# Altium footprint library PCB_LIB.PcbLib: 12 footprints
Each footprint in its own frame and in the unit in brackets; x right, y up, seen from the top. Pads: shape width x height; smd on the part's side, far side on the other; paste and mask are expansions set on the pad; w line width, h text height; cw(c..) or ccw(c..) is an arc to the next point about the centre after c.
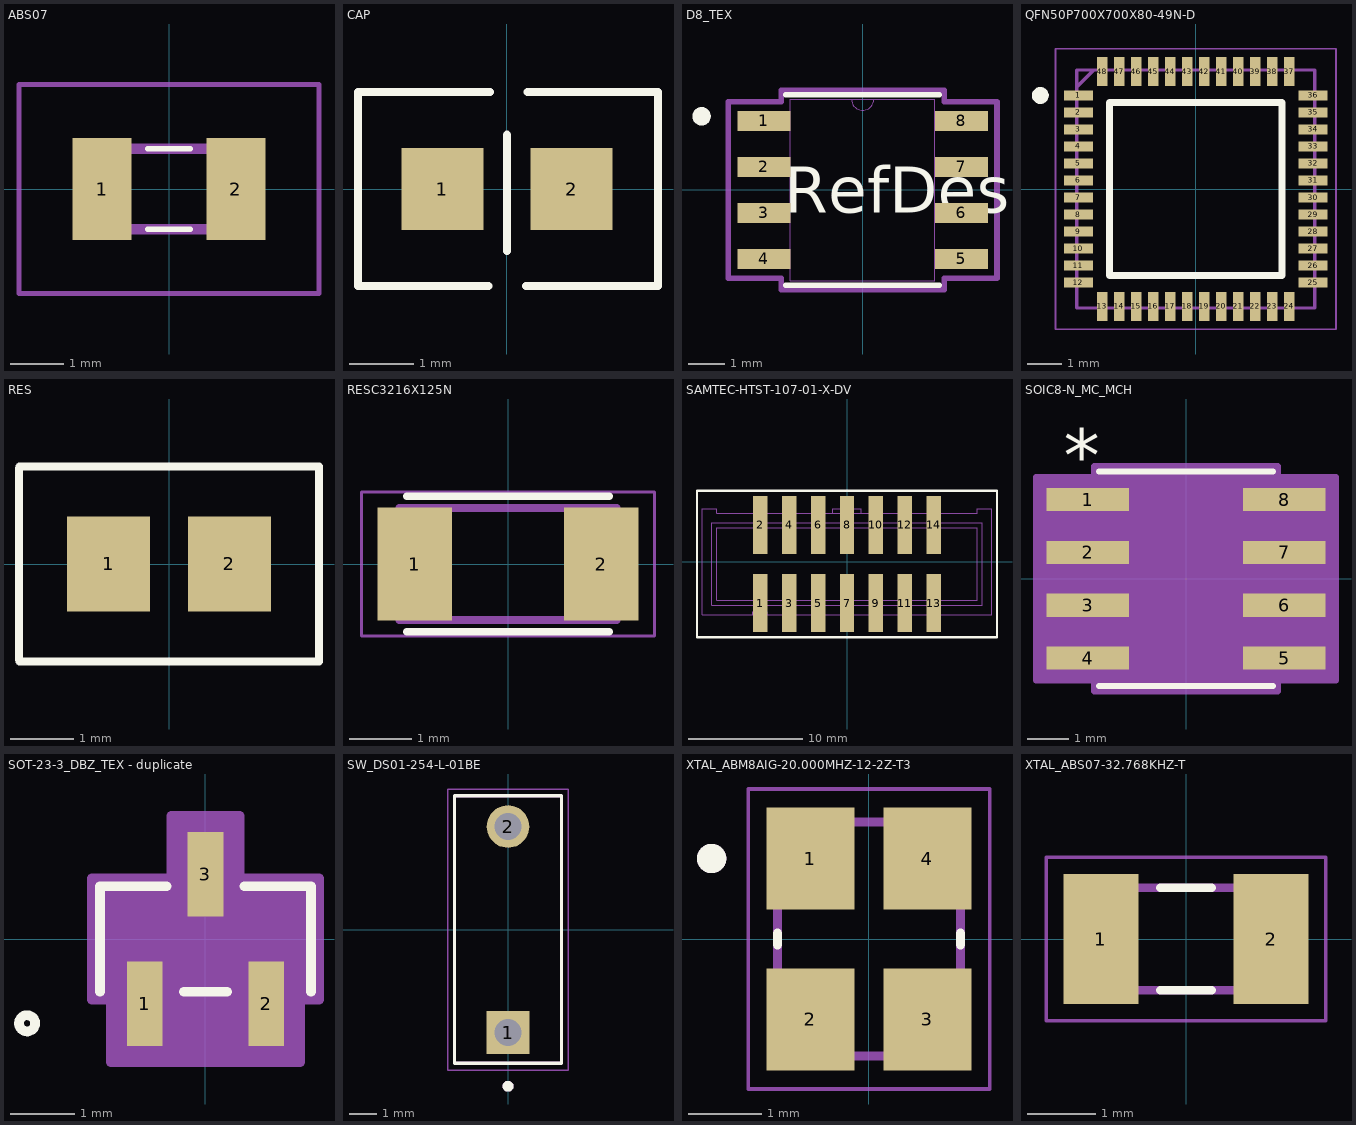
[diagram p0: the footprints below, top view; thin cyan lines are the x and y axes]

## ABS07 [mm]
pads (2):
  rect 1.1x1.9 smd: 1(-1.25,0) 2(1.25,0)
Top Overlay:
  lines w0.1: -0.4,-0.75 0.4,-0.75 ; -0.4,0.75 0.4,0.75
Mechanical 13:
  lines w0.2: -1.6,-0.75 -1.6,0.75 1.6,0.75 1.6,-0.75 -1.6,-0.75
Mechanical 15:
  lines w0.1: -2.8,-1.95 -2.8,1.95 2.8,1.95 2.8,-1.95 -2.8,-1.95
3D body "ABS07-32.768KHZ-T.stp": height 0.9, standoff 0, extent -1.6,-0.75 1.6,0.75

## CAP [mm] "Ceramic Capacitor"
height 0.7
pads (2):
  rect 1.27x1.27 smd mask+0.076: 1(-1,0) 2(1,0)
Top Overlay:
  lines w0.125: -0.289,-1.5 -2.308,-1.5 -2.308,1.5 -0.263,1.5 ; 0.001,-0.959 0.001,0.841 ; 0.295,-1.5 2.34,-1.5 2.34,1.5 0.321,1.5
3D body "0805 SMD Capacitor.STEP": height 0.78, standoff 0, extent -1,-0.625 1,0.625

## D8_TEX [mil]
pads (8):
  rect 57.5x22 smd paste+0 mask+0: 1(-107.25,75) 2(-107.25,25) 3(-107.25,-25) 4(-107.25,-75) 5(107.25,-75) 6(107.25,-25) 7(107.25,25) 8(107.25,75)
Top Overlay:
  circle w10: c-175,80 r5
  lines w6: -83.5,-103.5 83.5,-103.5 ; -83.5,103.5 83.5,103.5
  text "RefDes" at -85,-25 h50
Mechanical 13:
  lines w0: -12,98.5 ccw(c0,98.5) 12,98.5
  lines w1: -122,-85 -78.5,-85 -78.5,-65 -122,-65 -122,-85 ; -122,-35 -78.5,-35 -78.5,-15 -122,-15 -122,-35 ; -122,15 -78.5,15 -78.5,35 -122,35 -122,15 ; -122,65 -78.5,65 -78.5,85 -122,85 -122,65 ; -78.5,-98.5 -78.5,98.5 78.5,98.5 78.5,-98.5 -78.5,-98.5 ; 78.5,-85 122,-85 122,-65 78.5,-65 78.5,-85 ; 78.5,-35 122,-35 122,-15 78.5,-15 78.5,-35 ; 78.5,15 122,15 122,35 78.5,35 78.5,15 ; 78.5,65 122,65 122,85 78.5,85 78.5,65
  text "RefDes2" at -87.5,-25 h50
Mechanical 15:
  lines w6: -146,-96 -88.5,-96 -88.5,-108.5 88.5,-108.5 88.5,-96 146,-96 146,96 88.5,96 88.5,108.5 -88.5,108.5 -88.5,96 -146,96 -146,-96
3D body "D8_TEX.step": height 69.09, standoff 0, extent -122.01,-98.5 122.01,98.5

## QFN50P700X700X80-49N-D [mm]
pads (48):
  rect 0.85x0.3 smd: 1(-3.45,2.75) 2(-3.45,2.25) 3(-3.45,1.75) 4(-3.45,1.25) 5(-3.45,0.75) 6(-3.45,0.25) 7(-3.45,-0.25) 8(-3.45,-0.75) 9(-3.45,-1.25) 10(-3.45,-1.75) 11(-3.45,-2.25) 12(-3.45,-2.75) 25(3.45,-2.75) 26(3.45,-2.25) 27(3.45,-1.75) 28(3.45,-1.25) 29(3.45,-0.75) 30(3.45,-0.25) 31(3.45,0.25) 32(3.45,0.75) 33(3.45,1.25) 34(3.45,1.75) 35(3.45,2.25) 36(3.45,2.75)
  rect 0.3x0.85 smd: 13(-2.75,-3.45) 14(-2.25,-3.45) 15(-1.75,-3.45) 16(-1.25,-3.45) 17(-0.75,-3.45) 18(-0.25,-3.45) 19(0.25,-3.45) 20(0.75,-3.45) 21(1.25,-3.45) 22(1.75,-3.45) 23(2.25,-3.45) 24(2.75,-3.45) 37(2.75,3.45) 38(2.25,3.45) 39(1.75,3.45) 40(1.25,3.45) 41(0.75,3.45) 42(0.25,3.45) 43(-0.25,3.45) 44(-0.75,3.45) 45(-1.25,3.45) 46(-1.75,3.45) 47(-2.25,3.45) 48(-2.75,3.45)
Top Overlay:
  circle w0.25: c-4.572,2.75 r0.125
  lines w0.2: -2.54,-2.54 2.54,-2.54 2.54,2.54 -2.54,2.54 -2.54,-2.54
Mechanical 13:
  lines w0.1: -3.5,3 -3,3.5 ; -3.5,-3.5 3.5,-3.5 3.5,3.5 -3.5,3.5 -3.5,-3.5
Mechanical 15:
  lines w0.05: -4.125,-4.125 4.125,-4.125 4.125,4.125 -4.125,4.125 -4.125,-4.125
3D body "R5F51105ADNE#20.stp": height 0.8, standoff 0, extent -3.55,-3.55 3.55,3.55

## RES [mm] "Resister"
height 0.65
pads (2):
  rect 1.3x1.5 smd mask+0.076: 1(-0.95,0) 2(0.95,0)
Top Overlay:
  lines w0.125: -2.358,-1.5 -2.358,1.5 ; -2.35,-1.53 2.358,-1.53 ; -2.35,1.53 2.358,1.53 2.358,1.515 2.358,-1.5
3D body "RES0805.stp": height 0.5, standoff 0, extent -1,-0.63 1,0.62

## RESC3216X125N [mm]
pads (2):
  rect 1.2x1.82 smd: 1(-1.505,0) 2(1.505,0)
Top Overlay:
  lines w0.127: -1.63,-1.09 1.63,-1.09 ; -1.63,1.09 1.63,1.09
Mechanical 13:
  lines w0.127: -1.75,-0.9 1.75,-0.9 1.75,0.9 -1.75,0.9 -1.75,-0.9
Mechanical 15:
  lines w0.05: -2.36,-1.16 2.36,-1.16 2.36,1.16 -2.36,1.16 -2.36,-1.16
3D body "0ZCJ0050FF2G.STEP": height 0.43, standoff -0.43, extent -1.625,-0.825 1.625,0.825

## SAMTEC-HTST-107-01-X-DV [mm]
pads (14):
  rect 1.27x5.08 smd mask+0: 1(-7.62,-3.62) 2(-7.62,3.238) 3(-5.08,-3.62) 4(-5.08,3.238) 5(-2.54,-3.62) 6(-2.54,3.238) 7(0,-3.62) 8(0,3.238) 9(2.54,-3.62) 10(2.54,3.238) 11(5.08,-3.62) 12(5.08,3.238) 13(7.62,-3.62) 14(7.62,3.238)
Top Overlay:
  lines w0.2: -13.15,-6.611 13.15,-6.611 13.15,6.23 -13.15,6.23 -13.15,-6.611
Top Paste:
  region: -6.985,-6.16 -8.255,-6.16 -8.255,-1.08 -6.985,-1.08
  region: -6.985,0.698 -8.255,0.698 -8.255,5.778 -6.985,5.778
  region: -4.445,-6.16 -5.715,-6.16 -5.715,-1.08 -4.445,-1.08
  region: -4.445,0.698 -5.715,0.698 -5.715,5.778 -4.445,5.778
  region: -1.905,-6.16 -3.175,-6.16 -3.175,-1.08 -1.905,-1.08
  region: -1.905,0.698 -3.175,0.698 -3.175,5.778 -1.905,5.778
  region: 0.635,-6.16 -0.635,-6.16 -0.635,-1.08 0.635,-1.08
  region: 0.635,0.698 -0.635,0.698 -0.635,5.778 0.635,5.778
  region: 3.175,-6.16 1.905,-6.16 1.905,-1.08 3.175,-1.08
  region: 3.175,0.698 1.905,0.698 1.905,5.778 3.175,5.778
  region: 5.715,-6.16 4.445,-6.16 4.445,-1.08 5.715,-1.08
  region: 5.715,0.698 4.445,0.698 4.445,5.778 5.715,5.778
  region: 8.255,-6.16 6.985,-6.16 6.985,-1.08 8.255,-1.08
  region: 8.255,0.698 6.985,0.698 6.985,5.778 8.255,5.778
Top Solder:
  region: -6.934,-6.211 -8.306,-6.211 -8.306,-1.029 -6.934,-1.029
  region: -6.934,0.647 -8.306,0.647 -8.306,5.829 -6.934,5.829
  region: -4.394,-6.211 -5.766,-6.211 -5.766,-1.029 -4.394,-1.029
  region: -4.394,0.647 -5.766,0.647 -5.766,5.829 -4.394,5.829
  region: -1.854,-6.211 -3.226,-6.211 -3.226,-1.029 -1.854,-1.029
  region: -1.854,0.647 -3.226,0.647 -3.226,5.829 -1.854,5.829
  region: 0.686,-6.211 -0.686,-6.211 -0.686,-1.029 0.686,-1.029
  region: 0.686,0.647 -0.686,0.647 -0.686,5.829 0.686,5.829
  region: 3.226,-6.211 1.854,-6.211 1.854,-1.029 3.226,-1.029
  region: 3.226,0.647 1.854,0.647 1.854,5.829 3.226,5.829
  region: 5.766,-6.211 4.394,-6.211 4.394,-1.029 5.766,-1.029
  region: 5.766,0.647 4.394,0.647 4.394,5.829 5.766,5.829
  region: 8.306,0.647 6.934,0.647 6.934,5.829 8.306,5.829
  region: 8.306,-6.211 6.934,-6.211 6.934,-1.029 8.306,-1.029
Mechanical 13:
  drawing of 164 lines, arcs and shapes, not listed
3D body "HTST-107-01-T-DV.stp": height 8.89, standoff -1.27, extent -12.573,-5.842 12.827,5.334

## SOIC8-N_MC_MCH [mil]
pads (8):
  rect 78x22 smd paste+0 mask+0: 1(-93,75) 2(-93,25) 3(-93,-25) 4(-93,-75) 5(93,-75) 6(93,-25) 7(93,25) 8(93,75)
Top Overlay:
  lines w6: -82,-101.5 82,-101.5 ; -82,101.5 82,101.5
  text ".Designator" at -137.5,-25 h50
  text "*" at -115.5,92 h50
Mechanical 13:
  lines w1: -12,96.5 ccw(c0,96.5) 12,96.5 ; -118,-85 -118,-65 -77,-65 -77,-85 -118,-85 ; -118,-35 -118,-15 -77,-15 -77,-35 -118,-35 ; -118,15 -118,35 -77,35 -77,15 -118,15 ; -118,65 -118,85 -77,85 -77,65 -118,65 ; -77,-96.5 77,-96.5 77,96.5 -77,96.5 -77,-96.5 ; 77,-85 77,-65 118,-65 118,-85 77,-85 ; 77,-35 77,-15 118,-15 118,-35 77,-35 ; 77,15 77,35 118,35 118,15 77,15 ; 77,65 77,85 118,85 118,65 77,65
  text "*" at -74.5,43.5 h50
  text ".Designator" at -137.5,-25 h50
Mechanical 15:
  region: -87,-96 -142,-96 -142,96 -87,96 -87,106.5 87,106.5 87,96 142,96 142,-96 87,-96 87,-106.5 -87,-106.5
  lines w6: -142,-96 -142,96 -87,96 -87,106.5 87,106.5 87,96 142,96 142,-96 87,-96 87,-106.5 -87,-106.5 -87,-96 -142,-96
3D body "SOIC8-N_MC_MCH.step": height 69.09, standoff 0, extent -117.99,-96.5 117.99,96.5

## SOT-23-3_DBZ_TEX - duplicate [mil]
pads (3):
  rect 22x52 smd paste+0 mask+0: 1(-37.4,-40) 2(37.4,-40) 3(0,40)
Top Overlay:
  circle w6: c-110,-52 r5
  lines w6: -65,-32.5 -65,32.5 -24.1,32.5 ; -13.3,-32.5 13.3,-32.5 ; 24.1,32.5 65,32.5 65,-32.5
  text ".Designator" at -137.5,-25 h50
Mechanical 13:
  circle w1: c-50,-17.5 r5
  lines w1: -60,-27.5 -60,27.5 60,27.5 60,-27.5 -60,-27.5 ; -47.4,-52 -27.4,-52 -27.4,-27.5 -47.4,-27.5 -47.4,-52 ; -10,27.5 -10,52 10,52 10,27.5 -10,27.5 ; 27.4,-52 47.4,-52 47.4,-27.5 27.4,-27.5 27.4,-52
  text ".Designator" at -137.5,-25 h50
Mechanical 15:
  region: 60,-27.5 -60,-27.5 -60,27.5 60,27.5
  region: -70,-37.5 -70,37.5 -21,37.5 -21,76 21,76 21,37.5 70,37.5 70,-37.5 58.4,-37.5 58.4,-76 -58.4,-76 -58.4,-37.5
  lines w6: -70,-37.5 -58.4,-37.5 -58.4,-76 58.4,-76 58.4,-37.5 70,-37.5 70,37.5 21,37.5 21,76 -21,76 -21,37.5 -70,37.5 -70,-37.5
3D body "SOT-23-3_DBZ_TEX.step": height 44.09, standoff 0, extent -60,-52.01 60,52.01

## SW_DS01-254-L-01BE [mm]
height 7
pads (2):
  rect 1.58x1.58 / inner round 1.58 / far side rect 1.58x1.58 hole 1: 1(0,-3.81)
  round 1.58 hole 1: 2(0,3.81)
Top Overlay:
  circle w0.2: c0,-5.8 r0.1
  lines w0.127: -1.98,-4.95 1.98,-4.95 1.98,4.95 -1.98,4.95 -1.98,-4.95
Mechanical 13:
  circle w0.2: c0,-5.8 r0.1
  lines w0.127: -1.98,-4.95 1.98,-4.95 1.98,4.95 -1.98,4.95 -1.98,-4.95
Mechanical 15:
  lines w0.05: -2.23,-5.2 2.23,-5.2 2.23,5.2 -2.23,5.2 -2.23,-5.2
3D body "step_temp.STEP": height 6.68, standoff -3.68, extent -2.055,-4.95 1.905,4.95

## XTAL_ABM8AIG-20.000MHZ-12-2Z-T3 [mm]
height 0.8
pads (4):
  rect 1.2x1.4 smd: 1(-0.8,1.1) 2(-0.8,-1.1) 3(0.8,-1.1) 4(0.8,1.1)
Top Overlay:
  circle w0.2: c-2.15,1.1 r0.1
  lines w0.127: -1.25,-0.08 -1.25,0.08 ; 1.25,-0.08 1.25,0.08
Mechanical 13:
  circle w0.2: c-2.15,1.1 r0.1
  lines w0.127: -1.25,-1.6 1.25,-1.6 1.25,1.6 -1.25,1.6 -1.25,-1.6
Mechanical 15:
  lines w0.05: -1.65,-2.05 1.65,-2.05 1.65,2.05 -1.65,2.05 -1.65,-2.05
3D body "step_temp.STEP": height 0.8, standoff 0, extent -1.25,-1.6 1.25,1.6

## XTAL_ABS07-32.768KHZ-T [mm]
height 0.9
pads (2):
  rect 1.1x1.9 smd: 1(-1.25,0) 2(1.25,0)
Top Overlay:
  lines w0.127: -0.38,-0.75 0.38,-0.75 ; -0.38,0.75 0.38,0.75
Mechanical 13:
  lines w0.127: -1.6,-0.75 -1.6,0.75 1.6,0.75 1.6,-0.75 -1.6,-0.75
Mechanical 15:
  lines w0.05: -2.05,-1.2 -2.05,1.2 2.05,1.2 2.05,-1.2 -2.05,-1.2
3D body "step_temp.STEP": height 0.89, standoff 0, extent -1.6,-0.749 1.6,0.749